# Altium footprint library LDQ-M3604RI.PcbLib: 1 footprints
Each footprint in its own frame and in the unit in brackets; x right, y up, seen from the top. Pads: shape width x height; smd on the part's side, far side on the other; paste and mask are expansions set on the pad; w line width, h text height; cw(c..) or ccw(c..) is an arc to the next point about the centre after c.
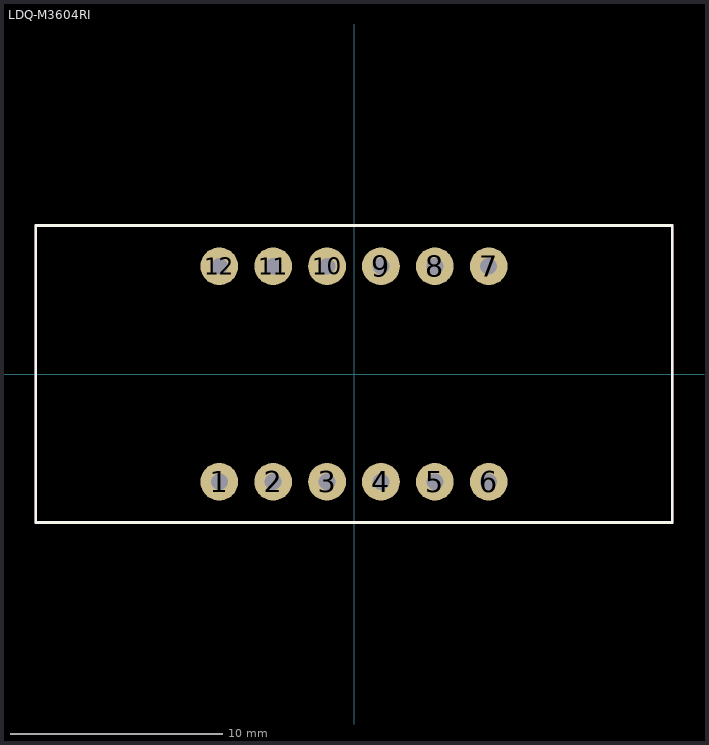
[diagram p0: the footprint, top view; thin cyan lines are the x and y axes]

## LDQ-M3604RI [mil]
pads (12):
  round 70 hole 31.5: 1(-250,-200) 2(-150,-200) 3(-50,-200) 4(50,-200) 5(150,-200) 6(250,-200) 7(250,200) 8(150,200) 9(50,200) 10(-50,200) 11(-150,200) 12(-250,200)
Top Overlay:
  lines w5: -590.55,-275.59 -590.55,275.59 590.55,275.59 590.55,-275.59 -590.55,-275.59
Mechanical 13:
  lines w5: -590.55,-275.59 590.55,-275.59 590.55,275.59 -590.55,275.59 -590.55,-275.59
3D body "step_temp.STEP": height 283.46, standoff -240.16, extent -590.55,-275.59 590.55,275.59